# Altium footprint library BL652_pcbLib.PcbLib: 1 footprints
Each footprint in its own frame and in the unit in brackets; x right, y up, seen from the top. Pads: shape width x height; smd on the part's side, far side on the other; paste and mask are expansions set on the pad; w line width, h text height; cw(c..) or ccw(c..) is an arc to the next point about the centre after c.
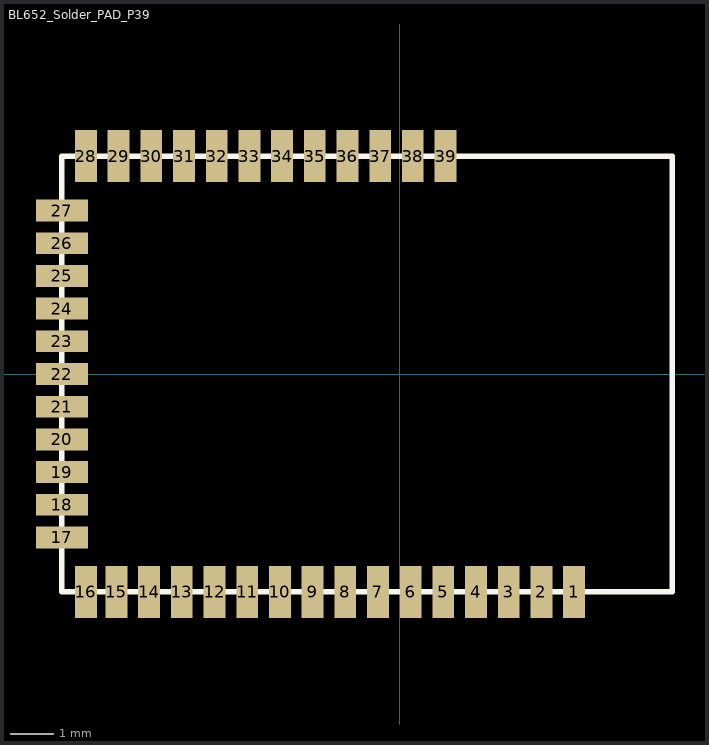
[diagram p0: the footprint, top view; thin cyan lines are the x and y axes]

## BL652_Solder_PAD_P39 [mm]
pads (39):
  rect 0.5x1.2 smd: 1(4.003,-5) 2(3.253,-5) 3(2.503,-5) 4(1.753,-5) 5(1.003,-5) 6(0.253,-5) 7(-0.497,-5) 8(-1.247,-5) 9(-1.997,-5) 10(-2.747,-5) 11(-3.497,-5) 12(-4.247,-5) 13(-4.997,-5) 14(-5.747,-5) 15(-6.497,-5) 16(-7.197,-5) 28(-7.197,5) 29(-6.447,5) 30(-5.697,5) 31(-4.947,5) 32(-4.197,5) 33(-3.447,5) 34(-2.697,5) 35(-1.947,5) 36(-1.197,5) 37(-0.447,5) 38(0.303,5) 39(1.053,5)
  rect 1.2x0.5 smd: 17(-7.747,-3.75) 18(-7.747,-3) 19(-7.747,-2.25) 20(-7.747,-1.5) 21(-7.747,-0.75) 22(-7.747,0) 23(-7.747,0.75) 24(-7.747,1.5) 25(-7.747,2.25) 26(-7.747,3) 27(-7.747,3.75)
Top Overlay:
  lines w0.127: -7.747,-5 -7.747,5 6.253,5 6.253,-5 -7.747,-5